# Altium schematic symbol library BoxHeader.SchLib: 163 symbols (part 1 of 2)
Pins are listed as number, name and electrical type; pins without a type are passive.

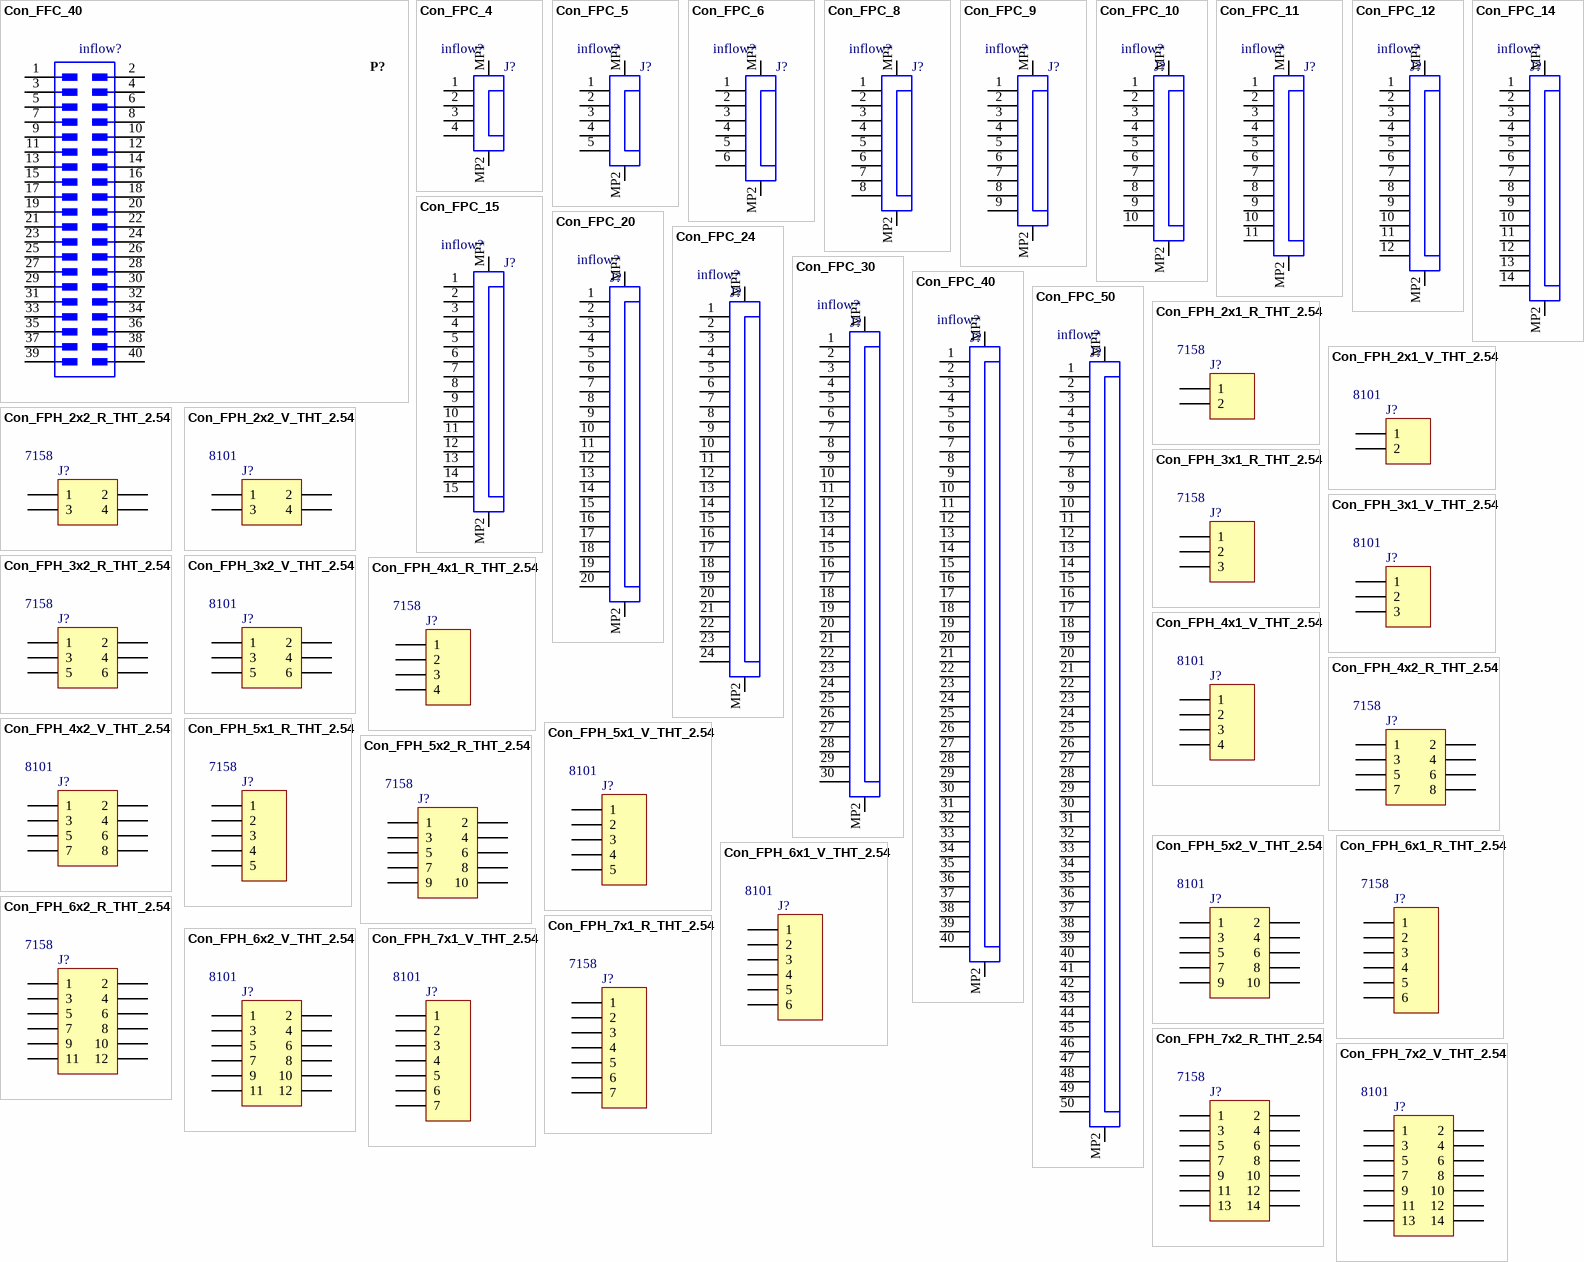
[diagram p0: symbols Con_FFC_40 to Con_FPH_7x2_V_THT_2.54]

## Con_FFC_40
designator P?, comment Inflow: inflow?  (hidden comment: 40'Pin, 0.5'mm)
Header FFC, 40 pin; Rating: Rating?; Validation: NT; Value: 40'Pin, 0.5'mm; Package: Package?; Type: Type?
footprint SMD_CON_FPC_2x20 (FPC-XXS1VN3R)
footprint FFC/SM0.5-2H40A (Connector; FH12 Series; 40 Position; 0.5mm Spaced Top Contact)
pins: 1, 2, 3, 4, 5, 6, 7, 8, 9, 10, 11, 12, 13, 14, 15, 16, 17, 18, 19, 20, 21, 22, 23, 24, 25, 26, 27, 28, 29, 30, 31, 32, 33, 34, 35, 36, 37, 38, 39, 40

## Con_FPC_4
designator J?, comment Inflow: inflow?  (hidden comment: 4'Pin)
SMT ZIF Connectors (FPC), 4 pins; Rating: Rating?; Validation: NT; Value: 4'Pin; Package: Package?; Type: Type?
footprint FPC_4PIN_TC_1mm (ZIF Connectors, Horizontal, Top Contact, pitch 1mm, 4p)
footprint FPC_4PIN_TCLP_1mm (ZIF Connectors, Horizontal, Top Contact Low Profile, pitch 1mm, 4p)
footprint FPC_4PIN_BC_1mm (ZIF Connectors, Horizontal, Bottom Contact, pitch 1mm, 4p)
footprint FPC_4PIN_BCLP_1mm (ZIF Connectors, Horizontal, Bottom Contact Low Profile, pitch 1mm, 4p)
pins: 1, 2, 3, 4, MP1, MP2

## Con_FPC_5
designator J?, comment Inflow: inflow?  (hidden comment: 5'Pin)
SMT ZIF Connectors (FPC), 5 pins; Rating: Rating?; Validation: NT; Value: 5'Pin; Package: Package?; Type: Type?
footprint FPC_5PIN_BC_1mm (ZIF Connectors, Horizontal, Bottom Contact, pitch 1mm, 5p)
pins: 1, 2, 3, 4, 5, MP1, MP2

## Con_FPC_6
designator J?, comment Inflow: inflow?  (hidden comment: 6'Pin)
SMT ZIF Connectors (FPC), 6 pins; Rating: Rating?; Validation: NT; Value: 6'Pin; Package: Package?; Type: Type?
footprint FPC_6PIN_TC_1mm (ZIF Connectors, Horizontal, Top Contact, pitch 1mm, 6p)
footprint FPC_6PIN_TC_0.5mm (ZIF Connectors, Horizontal, Top Contact, pitch 0.5mm, 6p)
footprint FPC_6PIN_TCLP_1mm (ZIF Connectors, Horizontal, Top Contact Low Profile, pitch 1mm, 6p)
footprint FPC_6PIN_TCLP_0.5mm (ZIF Connectors, Horizontal, Top Contact Low Profile, pitch 0.5mm, 6p)
footprint FPC_6PIN_BC_1mm (ZIF Connectors, Horizontal, Bottom Contact, pitch 1mm, 6p)
footprint FPC_6PIN_BC_0.5mm (ZIF Connectors, Horizontal, Bottom Contact, pitch 0.5mm, 6p)
footprint FPC_6PIN_BCLP_1mm (ZIF Connectors, Horizontal, Bottom Contact Low Profile, pitch 1mm, 6p)
footprint FPC_6PIN_BCLP_0.5mm (ZIF Connectors, Horizontal, Bottom Contact Low Profile, pitch 0.5mm, 6p)
pins: 1, 2, 3, 4, 5, 6, MP1, MP2

## Con_FPC_8
designator J?, comment Inflow: inflow?  (hidden comment: 8'Pin)
SMT ZIF Connectors (FPC), 8 pins; Rating: Rating?; Validation: NT; Value: 8'Pin; Package: Package?; Type: Type?
footprint FPC_8PIN_TC_1mm (ZIF Connectors, Horizontal, Top Contact, pitch 1mm, 8p)
footprint FPC_8PIN_TC_0.5mm (ZIF Connectors, Horizontal, Top Contact, pitch 0.5mm, 8p)
footprint FPC_8PIN_TCLP_1mm (ZIF Connectors, Horizontal, Top Contact Low Profile, pitch 1mm, 8p)
footprint FPC_8PIN_TCLP_0.5mm (ZIF Connectors, Horizontal, Top Contact Low Profile, pitch 0.5mm, 8p)
footprint FPC_8PIN_BC_1mm (ZIF Connectors, Horizontal, Bottom Contact, pitch 1mm, 8p)
footprint FPC_8PIN_BC_0.5mm (ZIF Connectors, Horizontal, Bottom Contact, pitch 0.5mm, 8p)
footprint FPC_8PIN_BCLP_1mm (ZIF Connectors, Horizontal, Bottom Contact Low Profile, pitch 1mm, 8p)
footprint FPC_8PIN_BCLP_0.5mm (ZIF Connectors, Horizontal, Bottom Contact Low Profile, pitch 0.5mm, 8p)
pins: 1, 2, 3, 4, 5, 6, 7, 8, MP1, MP2

## Con_FPC_9
designator J?, comment Inflow: inflow?  (hidden comment: 9'Pin)
SMT ZIF Connectors (FPC), 9 pins; Rating: Rating?; Validation: NT; Value: 9'Pin; Package: Package?; Type: Type?
footprint FPC_9PIN_BC_1mm (ZIF Connectors, Horizontal, Bottom Contact, pitch 1mm, 9p)
pins: 1, 2, 3, 4, 5, 6, 7, 8, 9, MP1, MP2

## Con_FPC_10
designator J?, comment Inflow: inflow?  (hidden comment: 10'Pin)
SMT ZIF Connectors (FPC), 10 pins; Rating: Rating?; Validation: Valid; Value: 10'Pin; Package: Package?; Type: Type?
footprint FPC_10PIN_TC_1mm (ZIF Connectors, Horizontal, Top Contact, pitch 1mm, 10p)
footprint FPC_10PIN_TC_0.5mm (ZIF Connectors, Horizontal, Top Contact, pitch 0.5mm, 10p)
footprint FPC_10PIN_TCLP_1mm (ZIF Connectors, Horizontal, Top Contact Low Profile, pitch 1mm, 10p)
footprint FPC_10PIN_TCLP_0.5mm (ZIF Connectors, Horizontal, Top Contact Low Profile, pitch 0.5mm, 10p)
footprint FPC_10PIN_BC_1mm (ZIF Connectors, Horizontal, Bottom Contact, pitch 1mm, 10p)
footprint FPC_10PIN_BC_0.5mm (ZIF Connectors, Horizontal, Bottom Contact, pitch 0.5mm, 10p)
footprint FPC_10PIN_BCLP_1mm (ZIF Connectors, Horizontal, Bottom Contact Low Profile, pitch 1mm, 10p)
footprint FPC_10PIN_BCLP_0.5mm (ZIF Connectors, Horizontal, Bottom Contact Low Profile, pitch 0.5mm, 10p)
pins: 1, 2, 3, 4, 5, 6, 7, 8, 9, 10, MP1, MP2

## Con_FPC_11
designator J?, comment Inflow: inflow?  (hidden comment: 11'Pin)
SMT ZIF Connectors (FPC), 11 pins; Rating: Rating?; Validation: NT; Value: 11'Pin; Package: Package?; Type: Type?
footprint FPC_11PIN_TC_1mm (ZIF Connectors, Horizontal, Top Contact, pitch 1mm, 11p)
pins: 1, 2, 3, 4, 5, 6, 7, 8, 9, 10, 11, MP1, MP2

## Con_FPC_12
designator J?, comment Inflow: inflow?  (hidden comment: 12'Pin)
SMT ZIF Connectors (FPC), 12 pins; Rating: Rating?; Validation: NT; Value: 12'Pin; Package: Package?; Type: Type?
footprint FPC_12PIN_TC_1mm (ZIF Connectors, Horizontal, Top Contact, pitch 1mm, 12p)
footprint FPC_12PIN_TC_0.5mm (ZIF Connectors, Horizontal, Top Contact, pitch 0.5mm, 12p)
footprint FPC_12PIN_TCLP_0.5mm (ZIF Connectors, Horizontal, Top Contact Low Profile, pitch 0.5mm, 12p)
footprint FPC_12PIN_BC_1mm (ZIF Connectors, Horizontal, Bottom Contact, pitch 1mm, 12p)
footprint FPC_12PIN_BC_0.5mm (ZIF Connectors, Horizontal, Bottom Contact, pitch 0.5mm, 12p)
footprint FPC_12PIN_BCLP_0.5mm (ZIF Connectors, Horizontal, Bottom Contact Low Profile, pitch 0.5mm, 12p)
pins: 1, 2, 3, 4, 5, 6, 7, 8, 9, 10, 11, 12, MP1, MP2

## Con_FPC_14
designator J?, comment Inflow: inflow?  (hidden comment: 14'Pin)
SMT ZIF Connectors (FPC), 14 pins; Rating: Rating?; Validation: NT; Value: 14'Pin; Package: Package?; Type: Type?
footprint FPC_14PIN_TC_1mm (ZIF Connectors, Horizontal, Top Contact, pitch 1mm, 14p)
footprint FPC_14PIN_TC_0.5mm (ZIF Connectors, Horizontal, Top Contact, pitch 0.5mm, 14p)
footprint FPC_14PIN_TCLP_1mm (ZIF Connectors, Horizontal, Top Contact Low Profile, pitch 1mm, 14p)
footprint FPC_14PIN_TCLP_0.5mm (ZIF Connectors, Horizontal, Top Contact Low Profile, pitch 0.5mm, 14p)
footprint FPC_14PIN_BC_1mm (ZIF Connectors, Horizontal, Bottom Contact, pitch 1mm, 14p)
footprint FPC_14PIN_BC_0.5mm (ZIF Connectors, Horizontal, Bottom Contact, pitch 0.5mm, 14p)
footprint FPC_14PIN_BCLP_1mm (ZIF Connectors, Horizontal, Bottom Contact Low Profile, pitch 1mm, 14p)
footprint FPC_14PIN_BCLP_0.5mm (ZIF Connectors, Horizontal, Bottom Contact Low Profile, pitch 0.5mm, 14p)
pins: 1, 2, 3, 4, 5, 6, 7, 8, 9, 10, 11, 12, 13, 14, MP1, MP2

## Con_FPC_15
designator J?, comment Inflow: inflow?  (hidden comment: 15'Pin)
SMT ZIF Connectors (FPC), 15 pins; Rating: Rating?; Validation: NT; Value: 15'Pin; Package: Package?; Type: Type?
footprint FPC_15PIN_TC_1mm (ZIF Connectors, Horizontal, Top Contact, pitch 1mm, 15p)
footprint FPC_15PIN_TCLP_1mm (ZIF Connectors, Horizontal, Top Contact Low Profile, pitch 1mm, 15p)
footprint FPC_15PIN_BCLP_1mm (ZIF Connectors, Horizontal, Bottom Contact Low Profile, pitch 1mm, 15p)
pins: 1, 2, 3, 4, 5, 6, 7, 8, 9, 10, 11, 12, 13, 14, 15, MP1, MP2

## Con_FPC_20
designator J?, comment Inflow: inflow?  (hidden comment: 20'Pin)
SMT ZIF Connectors (FPC), 20 pins; Rating: Rating?; Validation: NT; Value: 20'Pin; Package: Package?; Type: Type?
footprint FPC_20PIN_TC_0.5mm (ZIF Connectors, Horizontal, Top Contact, pitch 0.5mm, 20p)
footprint FPC_20PIN_TCLP_0.5mm (ZIF Connectors, Horizontal, Top Contact Low Profile, pitch 0.5mm, 20p)
footprint FPC_20PIN_BC_0.5mm (ZIF Connectors, Horizontal, Bottom Contact, pitch 0.5mm, 20p)
footprint FPC_20PIN_BCLP_0.5mm (ZIF Connectors, Horizontal, Bottom Contact Low Profile, pitch 0.5mm, 20p)
pins: 1, 2, 3, 4, 5, 6, 7, 8, 9, 10, 11, 12, 13, 14, 15, 16, 17, 18, 19, 20, MP1, MP2

## Con_FPC_24
designator J?, comment Inflow: inflow?  (hidden comment: 24'Pin)
SMT ZIF Connectors (FPC), 24 pins; Rating: Rating?; Validation: NT; Value: 24'Pin; Package: Package?; Type: Type?
footprint FPC_24PIN_TC_1mm (ZIF Connectors, Horizontal, Top Contact, pitch 1mm, 24p)
footprint FPC_24PIN_TC_0.5mm (ZIF Connectors, Horizontal, Top Contact, pitch 0.5mm, 24p)
footprint FPC_24PIN_TCLP_0.5mm (ZIF Connectors, Horizontal, Top Contact Low Profile, pitch 0.5mm, 24p)
footprint FPC_24PIN_BC_1mm (ZIF Connectors, Horizontal, Bottom Contact, pitch 1mm, 24p)
footprint FPC_24PIN_BC_0.5mm (ZIF Connectors, Horizontal, Bottom Contact, pitch 0.5mm, 24p)
footprint FPC_24PIN_BCLP_0.5mm (ZIF Connectors, Horizontal, Bottom Contact Low Profile, pitch 0.5mm, 24p)
pins: 1, 2, 3, 4, 5, 6, 7, 8, 9, 10, 11, 12, 13, 14, 15, 16, 17, 18, 19, 20, 21, 22, 23, 24, MP1, MP2

## Con_FPC_30
designator J?, comment Inflow: inflow?  (hidden comment: 30'Pin)
SMT ZIF Connectors (FPC), 30 pins; Rating: Rating?; Validation: NT; Value: 30'Pin; Package: Package?; Type: Type?
footprint FPC_30PIN_TC_1mm (ZIF Connectors, Horizontal, Top Contact, pitch 1mm, 30p)
footprint FPC_30PIN_TC_0.5mm (ZIF Connectors, Horizontal, Top Contact, pitch 0.5mm, 30p)
footprint FPC_30PIN_TCLP_0.5mm (ZIF Connectors, Horizontal, Top Contact Low Profile, pitch 0.5mm, 30p)
footprint FPC_30PIN_BC_1mm (ZIF Connectors, Horizontal, Bottom Contact, pitch 1mm, 30p)
footprint FPC_30PIN_BC_0.5mm (ZIF Connectors, Horizontal, Bottom Contact, pitch 0.5mm, 30p)
footprint FPC_30PIN_BCLP_0.5mm (ZIF Connectors, Horizontal, Bottom Contact Low Profile, pitch 0.5mm, 30p)
pins: 1, 2, 3, 4, 5, 6, 7, 8, 9, 10, 11, 12, 13, 14, 15, 16, 17, 18, 19, 20, 21, 22, 23, 24, 25, 26, 27, 28, 29, 30, MP1, MP2

## Con_FPC_40
designator J?, comment Inflow: inflow?  (hidden comment: 40'Pin)
SMT ZIF Connectors (FPC), 40 pins; Rating: Rating?; Validation: NT; Value: 40'Pin; Package: Package?; Type: Type?
footprint FPC_40PIN_TC_0.5mm (ZIF Connectors, Horizontal, Top Contact, pitch 0.5mm, 40p)
footprint FPC_40PIN_TCLP_0.5mm (ZIF Connectors, Horizontal, Top Contact Low Profile, pitch 0.5mm, 40p)
footprint FPC_40PIN_BC_0.5mm (ZIF Connectors, Horizontal, Bottom Contact, pitch 0.5mm, 40p)
footprint FPC_40PIN_BCLP_0.5mm (ZIF Connectors, Horizontal, Bottom Contact Low Profile, pitch 0.5mm, 40p)
pins: 1, 2, 3, 4, 5, 6, 7, 8, 9, 10, 11, 12, 13, 14, 15, 16, 17, 18, 19, 20, 21, 22, 23, 24, 25, 26, 27, 28, 29, 30, 31, 32, 33, 34, 35, 36, 37, 38, 39, 40, MP1, MP2

## Con_FPC_50
designator J?, comment Inflow: inflow?  (hidden comment: 50'Pin)
SMT ZIF Connectors (FPC), 50 pins; Rating: Rating?; Validation: NT; Value: 50'Pin; Package: Package?; Type: Type?
footprint FPC_50PIN_TC_0.5mm (ZIF Connectors, Horizontal, Top Contact, pitch 0.5mm, 50p)
footprint FPC_50PIN_BC_0.5mm (ZIF Connectors, Horizontal, Bottom Contact, pitch 0.5mm, 50p)
pins: 1, 2, 3, 4, 5, 6, 7, 8, 9, 10, 11, 12, 13, 14, 15, 16, 17, 18, 19, 20, 21, 22, 23, 24, 25, 26, 27, 28, 29, 30, 31, 32, 33, 34, 35, 36, 37, 38, 39, 40, 41, 42, 43, 44, 45, 46, 47, 48, 49, 50, MP1, MP2

## Con_FPH_2x1_R_THT_2.54
designator J?, comment Inflow: 7158  (hidden comment: 2)
Header, single row, 2 pin; Rating: Rating?; Validation: NT; Value: 2; Package: Package?; Type: Type?
footprint HDR_THT_2F_2.54mm_RA (Socket Header, Pitch 2.54 mm, THT, Angled, single row, 2p)
pins: 1, 2

## Con_FPH_2x1_V_THT_2.54
designator J?, comment Inflow: 8101  (hidden comment: 2)
Header, single row, 2 pin; Rating: Rating?; Validation: NT; Value: 2; Package: Package?; Type: Type?
footprint HDR_THT_2F_2mm (Socket Header, Pitch 2.00 mm, THT, Vertical, single row, 2p)
footprint HDR_THT_2F_2.54mm (Socket Header, Pitch 2.54 mm, THT, Vertical, single row, 2p)
pins: 1, 2

## Con_FPH_2x2_R_THT_2.54
designator J?, comment Inflow: 7158  (hidden comment: 2x2)
Header, dual row, 4 pin; Rating: Rating?; Validation: NT; Value: 2x2; Package: Package?; Type: Type?
footprint HDR_SMD_2x2F_2mm_RA (Socket Header, Pitch 2.00 mm, SMT, Angled, dual row, 4p)
footprint HDR_THT_2x2F_2.54mm_RA (Socket Header, Pitch 2.54 mm, THT, Angled, dual row, 4p)
pins: 1, 2, 3, 4

## Con_FPH_2x2_V_THT_2.54
designator J?, comment Inflow: 8101  (hidden comment: 2x2)
Header, dual row, 4 pin; Rating: Rating?; Validation: NT; Value: 2x2; Package: Package?; Type: Type?
footprint HDR_SMD_2x2F_1.27mm (Socket Header, Pitch 1.27 mm, SMT, Vertical, dual row, 4p)
footprint HDR_THT_2x2F_1.27mm (Socket Header, Pitch 1.27 mm, THT, Vertical, dual row, 4p)
footprint HDR_SMD_2x2F_2mm (Socket Header, Pitch 2.00 mm, SMT, Vertical, dual row, 4p)
footprint HDR_SMD_2x2F_2.54mm (Socket Header, Pitch 2.54 mm, SMT, Vertical, dual row, 4p)
footprint HDR_THT_2x2F_2mm (Socket Header, Pitch 2.00 mm, THT, Vertical, dual row, 4p)
footprint HDR_THT_2x2F_2.54mm (Socket Header, Pitch 2.54 mm, THT, Vertical, dual row, 4p)
pins: 1, 2, 3, 4

## Con_FPH_3x1_R_THT_2.54
designator J?, comment Inflow: 7158  (hidden comment: 3)
Header, single row, 3 pin; Rating: Rating?; Validation: NT; Value: 3; Package: Package?; Type: Type?
footprint HDR_THT_3F_2.54mm_RA (Socket Header, Pitch 2.54 mm, THT, Angled, single row, 3p)
pins: 1, 2, 3

## Con_FPH_3x1_V_THT_2.54
designator J?, comment Inflow: 8101  (hidden comment: 3)
Header, single row, 3 pin; Rating: Rating?; Validation: NT; Value: 3; Package: Package?; Type: Type?
footprint HDR_THT_3F_2.54mm (Socket Header, Pitch 2.54 mm, THT, Vertical, single row, 3p)
pins: 1, 2, 3

## Con_FPH_3x2_R_THT_2.54
designator J?, comment Inflow: 7158  (hidden comment: 3x2)
Header, dual row, 6 pin; Rating: Rating?; Validation: NT; Value: 3x2; Package: Package?; Type: Type?
footprint HDR_SMD_3x2F_2mm_RA (Socket Header, Pitch 2.00 mm, SMT, Angled, dual row, 6p)
footprint HDR_SMD_3x2F_2.54mm_RA (Socket Header, Pitch 2.54 mm, SMT, Angled, dual row, 6p)
footprint HDR_THT_3x2F_2.54mm_RA (Socket Header, Pitch 2.54 mm, THT, Angled, dual row, 6p)
pins: 1, 2, 3, 4, 5, 6

## Con_FPH_3x2_V_THT_2.54
designator J?, comment Inflow: 8101  (hidden comment: 3x2)
Header, dual row, 6 pin; Rating: Rating?; Validation: NT; Value: 3x2; Package: Package?; Type: Type?
footprint HDR_THT_3X2F_2.54mm (Pin Header, pitch 2.54 mm, THT, Vertical, dual row, 6p)
footprint HDR_SMD_3x2F_2mm (Socket Header, Pitch 2.00 mm, SMT, Vertical, dual row, 6p)
footprint HDR_SMD_3x2F_2.54mm (Socket Header, Pitch 2.54 mm, SMT, Vertical, dual row, 6p)
footprint HDR_THT_3x2F_2mm (Socket Header, Pitch 2.00 mm, THT, Vertical, dual row, 6p)
pins: 1, 2, 3, 4, 5, 6

## Con_FPH_4x1_R_THT_2.54
designator J?, comment Inflow: 7158  (hidden comment: 4)
Header, single row, 4 pin; Rating: Rating?; Validation: NT; Value: 4; Package: Package?; Type: Type?
footprint HDR_THT_4F_2.54mm_RA (Socket Header, Pitch 2.54 mm, THT, Angled, single row, 4p)
pins: 1, 2, 3, 4

## Con_FPH_4x1_V_THT_2.54
designator J?, comment Inflow: 8101  (hidden comment: 4)
Header, single row, 4 pin; Rating: Rating?; Validation: NT; Value: 4; Package: Package?; Type: Type?
footprint HDR_THT_4F_2.54mm (Pin Header, pitch 2.54 mm, THT, Vertical, single row, 4p)
footprint HDR_SMD_4F_2.54mm (Socket Header, Pitch 2.54 mm, SMT, Vertical, single row, 4p)
footprint HDR_SMD_4F_2.54mm_ (Socket Header, Pitch 2.54 mm, SMT, Vertical, single row, 4p)
footprint HDR_THT_4F_2mm (Socket Header, Pitch 2.00 mm, THT, Vertical, single row, 4p)
footprint HDR_THT_4F_2.54mm_military (Pin Header, pitch 2.54 mm, THT, Vertical, single row, 4p)
pins: 1, 2, 3, 4

## Con_FPH_4x2_R_THT_2.54
designator J?, comment Inflow: 7158  (hidden comment: 4x2)
Header, dual row, 8 pin; Rating: Rating?; Validation: NT; Value: 4x2; Package: Package?; Type: Type?
footprint HDR_SMD_4x2F_2mm_RA (Socket Header, Pitch 2.00 mm, SMT, Angled, dual row, 8p)
footprint HDR_SMD_4x2F_2.54mm_RA (Socket Header, Pitch 2.54 mm, SMT, Angled, dual row, 8p)
footprint HDR_THT_4x2F_2.54mm_RA (Socket Header, Pitch 2.54 mm, THT, Angled, dual row, 8p)
pins: 1, 2, 3, 4, 5, 6, 7, 8

## Con_FPH_4x2_V_THT_2.54
designator J?, comment Inflow: 8101  (hidden comment: 4x2)
Header, dual row, 8 pin; Rating: Rating?; Validation: NT; Value: 4x2; Package: Package?; Type: Type?
footprint HDR_THT_4X2F_2.54mm (Pin Header, pitch 2.54 mm, THT, Vertical, dual row, 8p)
footprint HDR_SMD_4x2F_1.27mm (Socket Header, Pitch 1.27 mm, SMT, Vertical, dual row, 8p)
footprint HDR_THT_4x2F_1.27mm (Socket Header, Pitch 1.27 mm, THT, Vertical, dual row, 8p)
footprint HDR_SMD_4x2F_2mm (Socket Header, Pitch 2.00 mm, SMT, Vertical, dual row, 8p)
footprint HDR_SMD_4x2F_2.54mm (Socket Header, Pitch 2.54 mm, SMT, Vertical, dual row, 8p)
footprint HDR_THT_4x2F_2mm (Socket Header, Pitch 2.00 mm, THT, Vertical, dual row, 8p)
pins: 1, 2, 3, 4, 5, 6, 7, 8

## Con_FPH_5x1_R_THT_2.54
designator J?, comment Inflow: 7158  (hidden comment: 5)
Header, single row, 5 pin; Rating: Rating?; Validation: NT; Value: 5; Package: Package?; Type: Type?
footprint HDR_THT_5F_2.54mm_RA (Socket Header, Pitch 2.54 mm, THT, Angled, single row, 5p)
pins: 1, 2, 3, 4, 5

## Con_FPH_5x1_V_THT_2.54
designator J?, comment Inflow: 8101  (hidden comment: 5)
Header, single row, 5 pin; Rating: Rating?; Validation: NT; Value: 5; Package: Package?; Type: Type?
footprint HDR_SMD_5F_2.54mm (Socket Header, Pitch 2.54 mm, SMT, Vertical, single row, 5p)
footprint HDR_SMD_5F_2.54mm_ (Socket Header, Pitch 2.54 mm, SMT, Vertical, single row, 5p)
footprint HDR_THT_5F_2.54mm (Socket Header, Pitch 2.54 mm, THT, Vertical, single row, 5p)
pins: 1, 2, 3, 4, 5

## Con_FPH_5x2_R_THT_2.54
designator J?, comment Inflow: 7158  (hidden comment: 5x2)
Header, dual row, 10 pin; Rating: Rating?; Validation: NT; Value: 5x2; Package: Package?; Type: Type?
footprint HDR_SMD_5x2F_2mm_RA (Socket Header, Pitch 2.00 mm, SMT, Angled, dual row, 10p)
footprint HDR_SMD_5x2F_2.54mm_RA (Socket Header, Pitch 2.54 mm, SMT, Angled, dual row, 10p)
footprint HDR_THT_5x2F_2.54mm_RA (Socket Header, Pitch 2.54 mm, THT, Angled, dual row, 10p)
pins: 1, 2, 3, 4, 5, 6, 7, 8, 9, 10

## Con_FPH_5x2_V_THT_2.54
designator J?, comment Inflow: 8101  (hidden comment: 5x2)
Header, dual row, 10 pin; Rating: Rating?; Validation: NT; Value: 5x2; Package: Package?; Type: Type?
footprint HDR_SMD_5x2F_1.27mm (Socket Header, Pitch 1.27 mm, SMT, Vertical, dual row, 10p)
footprint HDR_THT_5x2F_1.27mm (Socket Header, Pitch 1.27 mm, THT, Vertical, dual row, 10p)
footprint HDR_SMD_5x2F_2mm (Socket Header, Pitch 2.00 mm, SMT, Vertical, dual row, 10p)
footprint HDR_SMD_5x2F_2.54mm (Socket Header, Pitch 2.54 mm, SMT, Vertical, dual row, 10p)
footprint HDR_THT_5x2F_2mm (Socket Header, Pitch 2.00 mm, THT, Vertical, dual row, 10p)
footprint HDR_THT_5x2F_2.54mm (Socket Header, Pitch 2.54 mm, THT, Vertical, dual row, 10p)
pins: 1, 2, 3, 4, 5, 6, 7, 8, 9, 10

## Con_FPH_6x1_R_THT_2.54
designator J?, comment Inflow: 7158  (hidden comment: 6)
Header, single row, 6 pin; Rating: Rating?; Validation: NT; Value: 6; Package: Package?; Type: Type?
footprint HDR_THT_6F_2.54mm_RA (Socket Header, Pitch 2.54 mm, THT, Angled, single row, 6p)
pins: 1, 2, 3, 4, 5, 6

## Con_FPH_6x1_V_THT_2.54
designator J?, comment Inflow: 8101  (hidden comment: 6)
Header, single row, 6 pin; Rating: Rating?; Validation: NT; Value: 6; Package: Package?; Type: Type?
footprint HDR_THT_6F_2.54mm (Pin Header, pitch 2.54 mm, THT, Vertical, single row, 6p)
footprint HDR_SMD_6F_2.54mm (Socket Header, Pitch 2.54 mm, SMT, Vertical, single row, 6p)
footprint HDR_SMD_6F_2.54mm_ (Socket Header, Pitch 2.54 mm, SMT, Vertical, single row, 6p)
footprint HDR_THT_6F_2mm (Socket Header, Pitch 2.00 mm, THT, Vertical, single row, 6p)
footprint HDR_THT_6F_2.54mm_military (Pin Header, pitch 2.54 mm, THT, Vertical, single row, 6p)
pins: 1, 2, 3, 4, 5, 6

## Con_FPH_6x2_R_THT_2.54
designator J?, comment Inflow: 7158  (hidden comment: 6x2)
Header, dual row, 12 pin; Rating: Rating?; Validation: NT; Value: 6x2; Package: Package?; Type: Type?
footprint HDR_SMD_6x2F_2mm_RA (Socket Header, Pitch 2.00 mm, SMT, Angled, dual row, 12p)
footprint HDR_SMD_6x2F_2.54mm_RA (Socket Header, Pitch 2.54 mm, SMT, Angled, dual row, 12p)
footprint HDR_THT_6x2F_2.54mm_RA (Socket Header, Pitch 2.54 mm, THT, Angled, dual row, 12p)
pins: 1, 2, 3, 4, 5, 6, 7, 8, 9, 10, 11, 12

## Con_FPH_6x2_V_THT_2.54
designator J?, comment Inflow: 8101  (hidden comment: 6x2)
Header, dual row, 12 pin; Rating: Rating?; Validation: NT; Value: 6x2; Package: Package?; Type: Type?
footprint HDR_SMD_6x2F_2.54mm (Socket Header, Pitch 2.54 mm, SMT, Vertical, dual row, 12p)
footprint HDR_THT_6x2F_2.54mm (Socket Header, Pitch 2.54 mm, THT, Vertical, dual row, 12p)
pins: 1, 2, 3, 4, 5, 6, 7, 8, 9, 10, 11, 12

## Con_FPH_7x1_R_THT_2.54
designator J?, comment Inflow: 7158  (hidden comment: 7)
Header, single row, 7 pin; Rating: Rating?; Validation: NT; Value: 7; Package: Package?; Type: Type?
footprint HDR_THT_7F_2.54mm_RA (Socket Header, Pitch 2.54 mm, THT, Angled, single row, 7p)
pins: 1, 2, 3, 4, 5, 6, 7

## Con_FPH_7x1_V_THT_2.54
designator J?, comment Inflow: 8101  (hidden comment: 7)
Header, single row, 7 pin; Rating: Rating?; Validation: NT; Value: 7; Package: Package?; Type: Type?
footprint HDR_THT_7F_2.54mm (Socket Header, Pitch 2.54 mm, THT, Vertical, single row, 7p)
pins: 1, 2, 3, 4, 5, 6, 7

## Con_FPH_7x2_R_THT_2.54
designator J?, comment Inflow: 7158  (hidden comment: 7x2)
Header, dual row, 14 pin; Rating: Rating?; Validation: NT; Value: 7x2; Package: Package?; Type: Type?
footprint HDR_SMD_7x2F_2.54mm_RA (Socket Header, Pitch 2.54 mm, SMT, Angled, dual row, 14p)
footprint HDR_SMD_7X2F_2mm_RA (Socket Header, Pitch 2.00 mm, SMT, Angled, dual row, 14p)
footprint HDR_THT_7x2F_2.54mm_RA (Socket Header, Pitch 2.54 mm, THT, Angled, dual row, 14p)
pins: 1, 2, 3, 4, 5, 6, 7, 8, 9, 10, 11, 12, 13, 14

## Con_FPH_7x2_V_THT_2.54
designator J?, comment Inflow: 8101  (hidden comment: 7x2)
Header, dual row, 14 pin; Rating: Rating?; Validation: NT; Value: 7x2; Package: Package?; Type: Type?
footprint HDR_THT_7x2F_2.54mm (Pin Header, pitch 2.54mm, THT, Vertical, dual row, 14p)
footprint HDR_SMD_7X2F_1.27mm (Socket Header, Pitch 1.27 mm, SMT, Vertical, dual row, 14p)
footprint HDR_THT_7X2F_1.27mm (Socket Header, Pitch 1.27 mm, THT, Vertical, dual row, 14p)
footprint HDR_SMD_7x2F_2mm (Socket Header, Pitch 2.00 mm, SMT, Vertical, dual row, 14p)
footprint HDR_THT_7X2F_2mm (Socket Header, Pitch 2.00 mm, THT, Vertical, dual row, 14p)
pins: 1, 2, 3, 4, 5, 6, 7, 8, 9, 10, 11, 12, 13, 14

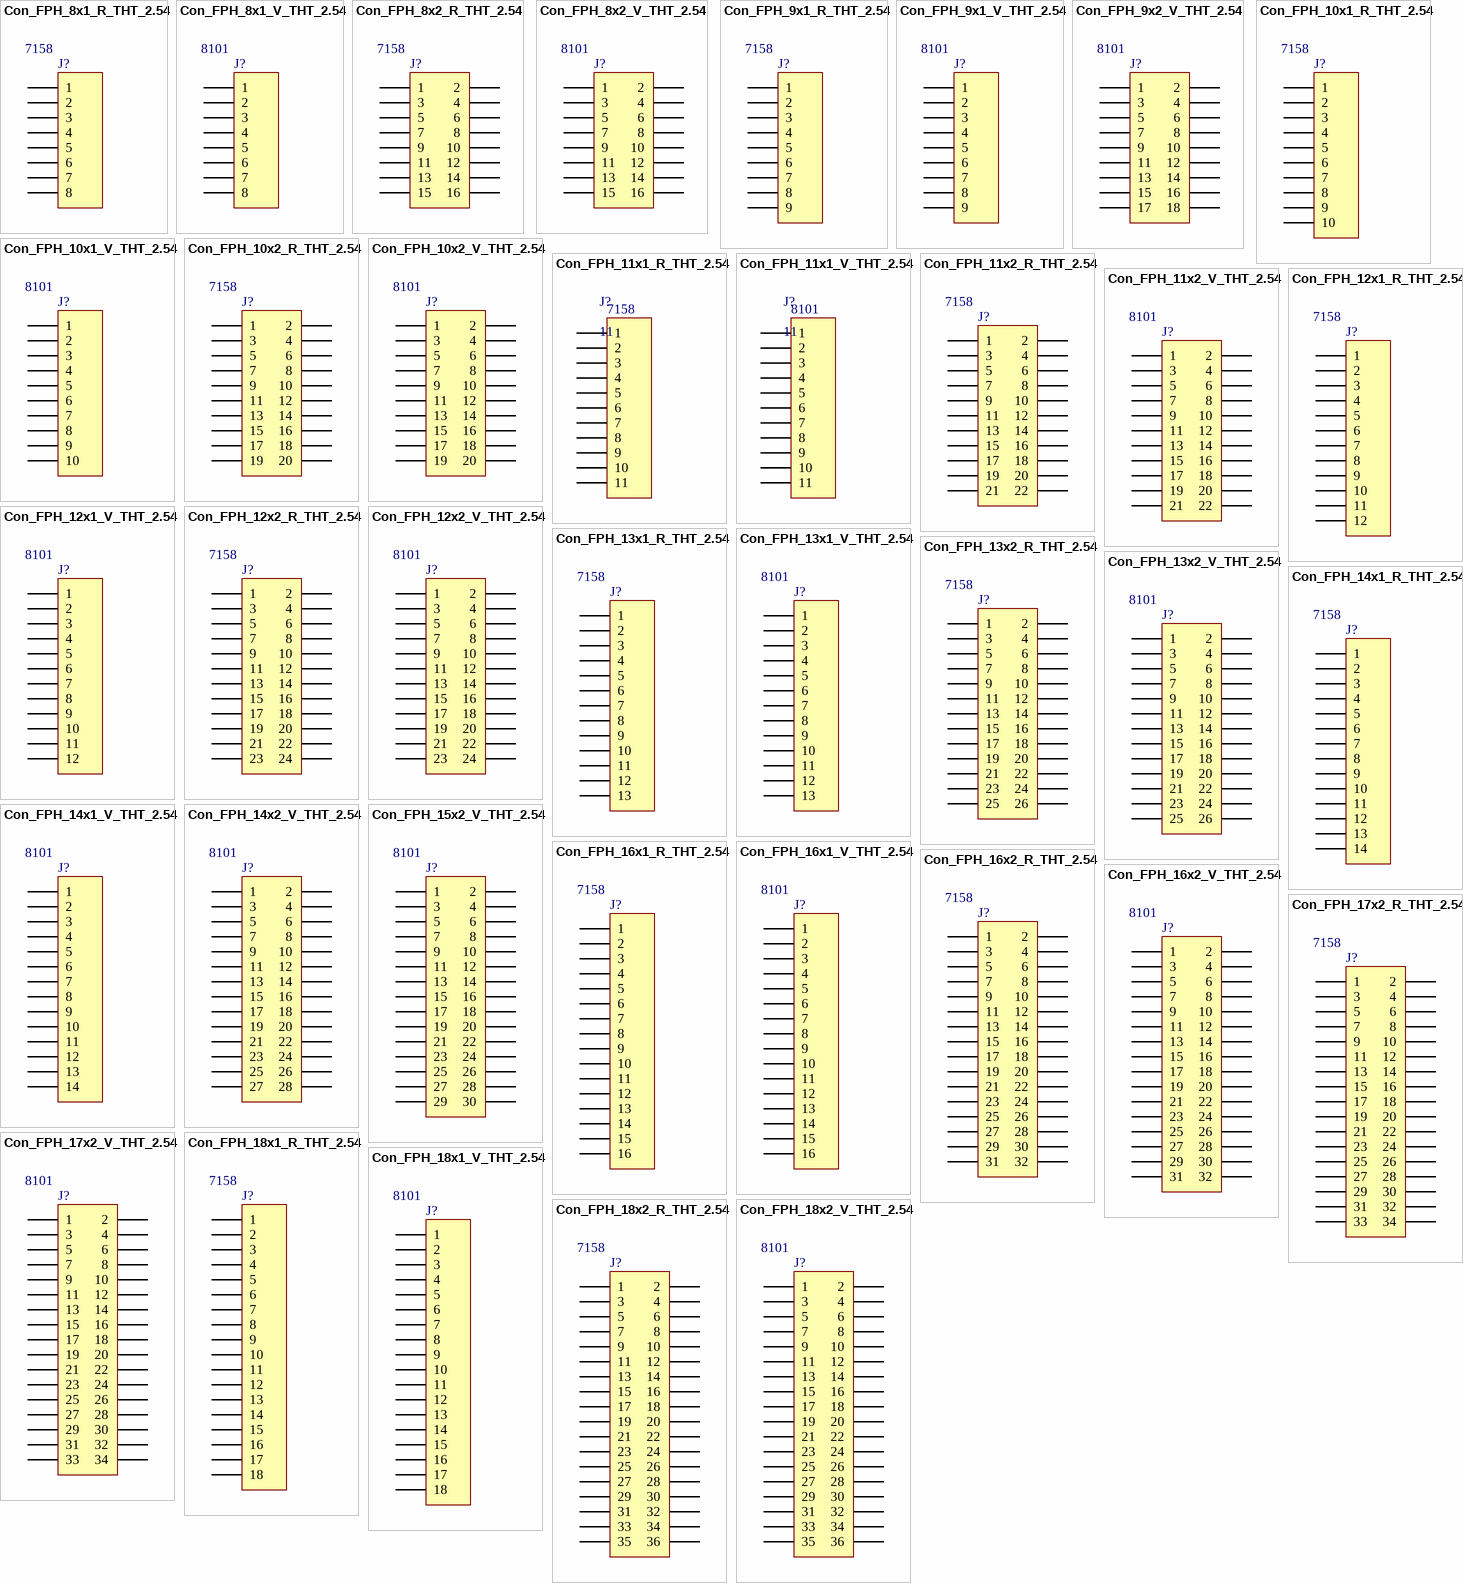
[diagram p1: symbols Con_FPH_8x1_R_THT_2.54 to Con_FPH_18x2_V_THT_2.54]

## Con_FPH_8x1_R_THT_2.54
designator J?, comment Inflow: 7158  (hidden comment: 8)
Header, single row, 8 pin; Rating: Rating?; Validation: NT; Value: 8; Package: Package?; Type: Type?
footprint HDR_THT_8F_2.54mm_RA (Socket Header, Pitch 2.54 mm, THT, Angled, single row, 18p)
pins: 1, 2, 3, 4, 5, 6, 7, 8

## Con_FPH_8x1_V_THT_2.54
designator J?, comment Inflow: 8101  (hidden comment: 8)
Header, single row, 8 pin; Rating: Rating?; Validation: NT; Value: 8; Package: Package?; Type: Type?
footprint HDR_SMD_8F_2.54mm (Socket Header, Pitch 2.54 mm, SMT, Vertical, single row, 8p)
footprint HDR_SMD_8F_2.54mm_ (Socket Header, Pitch 2.54 mm, SMT, Vertical, single row, 8p)
footprint HDR_THT_8F_2mm (Socket Header, Pitch 2.00 mm, THT, Vertical, single row, 8p)
footprint HDR_THT_8F_2.54mm (Socket Header, Pitch 2.54 mm, THT, Vertical, single row, 8p)
pins: 1, 2, 3, 4, 5, 6, 7, 8

## Con_FPH_8x2_R_THT_2.54
designator J?, comment Inflow: 7158  (hidden comment: 8x2)
Header, dual row, 16 pin; Rating: Rating?; Validation: NT; Value: 8x2; Package: Package?; Type: Type?
footprint HDR_SMD_8x2F_2mm_RA (Socket Header, Pitch 2.00 mm, SMT, Angled, dual row, 16p)
footprint HDR_SMD_8x2F_2.54mm_RA (Socket Header, Pitch 2.54 mm, SMT, Angled, dual row, 16p)
footprint HDR_THT_8x2F_2.54mm_RA (Socket Header, Pitch 2.54 mm, THT, Angled, dual row, 16p)
pins: 1, 2, 3, 4, 5, 6, 7, 8, 9, 10, 11, 12, 13, 14, 15, 16

## Con_FPH_8x2_V_THT_2.54
designator J?, comment Inflow: 8101  (hidden comment: 8x2)
Header, dual row, 16 pin; Rating: Rating?; Validation: NT; Value: 8x2; Package: Package?; Type: Type?
footprint HDR_THT_8x2F_2.54mm (Pin Header, pitch 2.54 mm, THT, Vertical, dual row, 16p)
footprint HDR_SMD_8x2F_1.27mm (Socket Header, Pitch 1.27 mm, SMT, Vertical, dual row, 16p)
footprint HDR_THT_8x2F_1.27mm (Socket Header, Pitch 1.27 mm, THT, Vertical, dual row, 16p)
footprint HDR_SMD_8x2F_2mm (Socket Header, Pitch 2.00 mm, SMT, Vertical, dual row, 16p)
footprint HDR_SMD_8x2F_2.54mm (Socket Header, Pitch 2.54 mm, SMT, Vertical, dual row, 16p)
footprint HDR_THT_8x2F_2mm (Socket Header, Pitch 2.00 mm, THT, Vertical, dual row, 16p)
pins: 1, 2, 3, 4, 5, 6, 7, 8, 9, 10, 11, 12, 13, 14, 15, 16

## Con_FPH_9x1_R_THT_2.54
designator J?, comment Inflow: 7158  (hidden comment: 9)
Header, single row, 9 pin; Rating: Rating?; Validation: NT; Value: 9; Package: Package?; Type: Type?
footprint HDR_THT_9F_2.54mm_RA (Socket Header, Pitch 2.54 mm, THT, Angled, single row, 19p)
pins: 1, 2, 3, 4, 5, 6, 7, 8, 9

## Con_FPH_9x1_V_THT_2.54
designator J?, comment Inflow: 8101  (hidden comment: 9)
Header, single row, 9 pin; Rating: Rating?; Validation: NT; Value: 9; Package: Package?; Type: Type?
footprint HDR_THT_9F_2.54mm (Socket Header, Pitch 2.54 mm, THT, Vertical, single row, 9p)
pins: 1, 2, 3, 4, 5, 6, 7, 8, 9

## Con_FPH_9x2_V_THT_2.54
designator J?, comment Inflow: 8101  (hidden comment: 9x2)
Header, dual row, 18 pin; Rating: Rating?; Validation: NT; Value: 9x2; Package: Package?; Type: Type?
footprint HDR_SMD_9x2F_2.54mm (Socket Header, Pitch 2.54 mm, SMT, Vertical, dual row, 18p)
footprint HDR_THT_9x2F_2.54mm (Socket Header, Pitch 2.54 mm, THT, Vertical, dual row, 18p)
pins: 1, 2, 3, 4, 5, 6, 7, 8, 9, 10, 11, 12, 13, 14, 15, 16, 17, 18

## Con_FPH_10x1_R_THT_2.54
designator J?, comment Inflow: 7158  (hidden comment: 10)
Header, single row, 10 pin; Rating: Rating?; Validation: NT; Value: 10; Package: Package?; Type: Type?
footprint HDR_THT_10F_2.54mm_RA (Socket Header, Pitch 2.54 mm, THT, Angled, single row, 10p)
pins: 1, 2, 3, 4, 5, 6, 7, 8, 9, 10

## Con_FPH_10x1_V_THT_2.54
designator J?, comment Inflow: 8101  (hidden comment: 10)
Header, single row, 10 pin; Rating: Rating?; Validation: NT; Value: 10; Package: Package?; Type: Type?
footprint HDR_SMD_10F_2.54mm (Socket Header, Pitch 2.54 mm, SMT, Vertical, single row, 10p)
footprint HDR_SMD_10F_2.54mm_ (Socket Header, Pitch 2.54 mm, SMT, Vertical, single row, 10p)
footprint HDR_THT_10F_2mm (Socket Header, Pitch 2.00 mm, THT, Vertical, single row, 10p)
footprint HDR_THT_10F_2.54mm (Socket Header, Pitch 2.54 mm, THT, Vertical, single row, 10p)
pins: 1, 2, 3, 4, 5, 6, 7, 8, 9, 10

## Con_FPH_10x2_R_THT_2.54
designator J?, comment Inflow: 7158  (hidden comment: 10x2)
Header, dual row, 20 pin; Rating: Rating?; Validation: NT; Value: 10x2; Package: Package?; Type: Type?
footprint HDR_SMD_10x2F_2mm_RA (Socket Header, Pitch 2.00 mm, SMT, Angled, dual row, 20p)
footprint HDR_SMD_10x2F_2.54mm_RA (Socket Header, Pitch 2.54 mm, SMT, Angled, dual row, 20p)
footprint HDR_THT_10x2F_2.54mm_RA (Socket Header, Pitch 2.54 mm, THT, Angled, dual row, 20p)
pins: 1, 2, 3, 4, 5, 6, 7, 8, 9, 10, 11, 12, 13, 14, 15, 16, 17, 18, 19, 20

## Con_FPH_10x2_V_THT_2.54
designator J?, comment Inflow: 8101  (hidden comment: 10x2)
Header, dual row, 20 pin; Rating: Rating?; Validation: NT; Value: 10x2; Package: Package?; Type: Type?
footprint HDR_THT_10X2F_2.54mm (Pin Header, pitch 2.54 mm, THT, Vertical, dual row, 20p)
footprint HDR_SMD_10x2F_1.27mm (Socket Header, Pitch 1.27 mm, SMT, Vertical, dual row, 20p)
footprint HDR_SMD_10x2F_2.54mm (Socket Header, Pitch 2.54 mm, SMT, Vertical, dual row, 20p)
footprint HDR_THT_10x2F_1.27mm (Socket Header, Pitch 1.27 mm, THT, Vertical, dual row, 20p)
footprint HDR_THT_10x2F_2mm (Socket Header, Pitch 2.00 mm, THT, Vertical, dual row, 20p)
footprint HDR_SMD_10x2F_2mm (Socket Header, Pitch 2.00 mm, SMT, Vertical, dual row, 20p)
pins: 1, 2, 3, 4, 5, 6, 7, 8, 9, 10, 11, 12, 13, 14, 15, 16, 17, 18, 19, 20

## Con_FPH_11x1_R_THT_2.54
designator J?, comment 11  Inflow: 7158
Header, single row, 11 pin; Rating: Rating?; Validation: NT; Value: 11; Package: Package?; Type: Type?
footprint HDR_THT_11F_2.54mm_RA (Socket Header, Pitch 2.54 mm, THT, Angled, single row, 11p)
pins: 1, 2, 3, 4, 5, 6, 7, 8, 9, 10, 11

## Con_FPH_11x1_V_THT_2.54
designator J?, comment 11  Inflow: 8101
Header, single row, 11 pin; Rating: Rating?; Validation: NT; Value: 11; Package: Package?; Type: Type?
footprint HDR_THT_11F_2.54mm (Socket Header, Pitch 2.54 mm, THT, Vertical, single row, 11p)
pins: 1, 2, 3, 4, 5, 6, 7, 8, 9, 10, 11

## Con_FPH_11x2_R_THT_2.54
designator J?, comment Inflow: 7158  (hidden comment: 11x2)
Header, dual row, 22 pin; Rating: Rating?; Validation: NT; Value: 11x2; Package: Package?; Type: Type?
footprint HDR_SMD_11x2F_2.54mm_RA (Socket Header, Pitch 2.54 mm, SMT, Angled, dual row, 22p)
footprint HDR_THT_11x2F_2.54mm_RA (Socket Header, Pitch 2.54 mm, THT, Angled, dual row, 22p)
pins: 1, 2, 3, 4, 5, 6, 7, 8, 9, 10, 11, 12, 13, 14, 15, 16, 17, 18, 19, 20, 21, 22

## Con_FPH_11x2_V_THT_2.54
designator J?, comment Inflow: 8101  (hidden comment: 11x2)
Header, dual row, 22 pin; Rating: Rating?; Validation: NT; Value: 11x2; Package: Package?; Type: Type?
footprint HDR_SMD_11x2F_2.54mm (Socket Header, Pitch 2.54 mm, SMT, Vertical, dual row, 22p)
footprint HDR_THT_11x2F_2.54mm (Socket Header, Pitch 2.54 mm, THT, Vertical, dual row, 22p)
pins: 1, 2, 3, 4, 5, 6, 7, 8, 9, 10, 11, 12, 13, 14, 15, 16, 17, 18, 19, 20, 21, 22

## Con_FPH_12x1_R_THT_2.54
designator J?, comment Inflow: 7158  (hidden comment: 12)
Header, single row, 12 pin; Rating: Rating?; Validation: NT; Value: 12; Package: Package?; Type: Type?
footprint HDR_THT_12F_2.54mm_RA (Socket Header, Pitch 2.54 mm, THT, Angled, single row, 12p)
pins: 1, 2, 3, 4, 5, 6, 7, 8, 9, 10, 11, 12

## Con_FPH_12x1_V_THT_2.54
designator J?, comment Inflow: 8101  (hidden comment: 12)
Header, single row, 12 pin; Rating: Rating?; Validation: NT; Value: 12; Package: Package?; Type: Type?
footprint HDR_SMD_12F_2.54mm (Socket Header, Pitch 2.54 mm, SMT, Vertical, single row, 12p)
footprint HDR_SMD_12F_2.54mm_ (Socket Header, Pitch 2.54 mm, SMT, Vertical, single row, 12p)
footprint HDR_THT_12F_2.54mm (Socket Header, Pitch 2.54 mm, THT, Vertical, single row, 12p)
pins: 1, 2, 3, 4, 5, 6, 7, 8, 9, 10, 11, 12

## Con_FPH_12x2_R_THT_2.54
designator J?, comment Inflow: 7158  (hidden comment: 12x2)
Header, dual row, 24 pin; Rating: Rating?; Validation: NT; Value: 12x2; Package: Package?; Type: Type?
footprint HDR_SMD_12x2F_2.54mm_RA (Socket Header, Pitch 2.54 mm, SMT, Angled, dual row, 24p)
footprint HDR_THT_12x2F_2.54mm_RA (Socket Header, Pitch 2.54 mm, THT, Angled, dual row, 24p)
pins: 1, 2, 3, 4, 5, 6, 7, 8, 9, 10, 11, 12, 13, 14, 15, 16, 17, 18, 19, 20, 21, 22, 23, 24

## Con_FPH_12x2_V_THT_2.54
designator J?, comment Inflow: 8101  (hidden comment: 12x2)
Header, dual row, 24 pin; Rating: Rating?; Validation: NT; Value: 12x2; Package: Package?; Type: Type?
footprint HDR_SMD_12x2F_2mm (Socket Header, Pitch 2.00 mm, SMT, Vertical, dual row, 24p)
footprint HDR_SMD_12x2F_2.54mm (Socket Header, Pitch 2.54 mm, SMT, Vertical, dual row, 24p)
footprint HDR_THT_12x2F_2mm (Socket Header, Pitch 2.00 mm, THT, Vertical, dual row, 24p)
footprint HDR_THT_12x2F_2.54mm (Socket Header, Pitch 2.54 mm, THT, Vertical, dual row, 24p)
pins: 1, 2, 3, 4, 5, 6, 7, 8, 9, 10, 11, 12, 13, 14, 15, 16, 17, 18, 19, 20, 21, 22, 23, 24

## Con_FPH_13x1_R_THT_2.54
designator J?, comment Inflow: 7158  (hidden comment: 13)
Header, single row, 13 pin; Rating: Rating?; Validation: NT; Value: 13; Package: Package?; Type: Type?
footprint HDR_THT_13F_2.54mm_RA (Socket Header, Pitch 2.54 mm, THT, Angled, single row, 13p)
pins: 1, 2, 3, 4, 5, 6, 7, 8, 9, 10, 11, 12, 13

## Con_FPH_13x1_V_THT_2.54
designator J?, comment Inflow: 8101  (hidden comment: 13)
Header, single row, 13 pin; Rating: Rating?; Validation: NT; Value: 13; Package: Package?; Type: Type?
footprint HDR_THT_13F_2.54mm (Pin Header, pitch 2.54 mm, THT, Vertical, single row, 13p)
pins: 1, 2, 3, 4, 5, 6, 7, 8, 9, 10, 11, 12, 13

## Con_FPH_13x2_R_THT_2.54
designator J?, comment Inflow: 7158  (hidden comment: 13x2)
Header, dual row, 26 pin; Rating: Rating?; Validation: NT; Value: 13x2; Package: Package?; Type: Type?
footprint HDR_SMD_13x2F_2.54mm_RA (Socket Header, Pitch 2.54 mm, SMT, Angled, dual row, 26p)
footprint HDR_THT_13x2F_2.54mm_RA (Socket Header, Pitch 2.54 mm, THT, Angled, dual row, 26p)
pins: 1, 2, 3, 4, 5, 6, 7, 8, 9, 10, 11, 12, 13, 14, 15, 16, 17, 18, 19, 20, 21, 22, 23, 24, 25, 26

## Con_FPH_13x2_V_THT_2.54
designator J?, comment Inflow: 8101  (hidden comment: 13x2)
Header, dual row, 26 pin; Rating: Rating?; Validation: NT; Value: 13x2; Package: Package?; Type: Type?
footprint HDR_THT_13X2F_2.54mm (Pin Header, pitch 2.54 mm, THT, Vertical, dual row, 26p)
footprint HDR_SMD_13x2F_2.54mm (Socket Header, Pitch 2.54 mm, SMT, Vertical, dual row, 26p)
pins: 1, 2, 3, 4, 5, 6, 7, 8, 9, 10, 11, 12, 13, 14, 15, 16, 17, 18, 19, 20, 21, 22, 23, 24, 25, 26

## Con_FPH_14x1_R_THT_2.54
designator J?, comment Inflow: 7158  (hidden comment: 14)
Header, single row, 14 pin; Rating: Rating?; Validation: NT; Value: 14; Package: Package?; Type: Type?
footprint HDR_THT_14F_2.54mm_RA (Socket Header, Pitch 2.54 mm, THT, Angled, single row, 14p)
pins: 1, 2, 3, 4, 5, 6, 7, 8, 9, 10, 11, 12, 13, 14

## Con_FPH_14x1_V_THT_2.54
designator J?, comment Inflow: 8101  (hidden comment: 14)
Header, single row, 14 pin; Rating: Rating?; Validation: NT; Value: 14; Package: Package?; Type: Type?
footprint HDR_SMD_14F_2.54mm (Socket Header, Pitch 2.54 mm, SMT, Vertical, single row, 14p)
footprint HDR_THT_14F_2.54mm (Socket Header, Pitch 2.54 mm, THT, Vertical, single row, 14p)
pins: 1, 2, 3, 4, 5, 6, 7, 8, 9, 10, 11, 12, 13, 14

## Con_FPH_14x2_V_THT_2.54
designator J?, comment Inflow: 8101  (hidden comment: 14x2)
Header, dual row, 28 pin; Rating: Rating?; Validation: NT; Value: 14x2; Package: Package?; Type: Type?
footprint HDR_SMD_14x2F_1.27mm (Socket Header, Pitch 1.27 mm, SMT, Vertical, dual row, 28p)
footprint HDR_THT_14x2F_1.27mm (Socket Header, Pitch 1.27 mm, THT, Vertical, dual row, 28p)
footprint HDR_THT_14x2F_2mm (Socket Header, Pitch 2.00 mm, THT, Vertical, dual row, 28p)
footprint HDR_THT_14x2F_2.54mm (Socket Header, Pitch 2.54 mm, THT, Vertical, dual row, 28p)
footprint HDR_THT_14x2F_2.54mm (Socket Header, Pitch 2.54 mm, THT, Vertical, dual row, 28p)
pins: 1, 2, 3, 4, 5, 6, 7, 8, 9, 10, 11, 12, 13, 14, 15, 16, 17, 18, 19, 20, 21, 22, 23, 24, 25, 26, 27, 28

## Con_FPH_15x2_V_THT_2.54
designator J?, comment Inflow: 8101  (hidden comment: 15x2)
Header, dual row, 30 pin; Rating: Rating?; Validation: NT; Value: 15x2; Package: Package?; Type: Type?
footprint HDR_THT_15x2F_2.54mm (Socket Header, Pitch 2.54 mm, THT, Vertical, dual row, 30p)
pins: 1, 2, 3, 4, 5, 6, 7, 8, 9, 10, 11, 12, 13, 14, 15, 16, 17, 18, 19, 20, 21, 22, 23, 24, 25, 26, 27, 28, 29, 30

## Con_FPH_16x1_R_THT_2.54
designator J?, comment Inflow: 7158  (hidden comment: 16)
Header, single row, 16 pin; Rating: Rating?; Validation: NT; Value: 16; Package: Package?; Type: Type?
footprint HDR_THT_16F_2.54mm_RA (Socket Header, Pitch 2.54 mm, THT, Angled, single row, 16p)
pins: 1, 2, 3, 4, 5, 6, 7, 8, 9, 10, 11, 12, 13, 14, 15, 16

## Con_FPH_16x1_V_THT_2.54
designator J?, comment Inflow: 8101  (hidden comment: 16)
Header, single row, 16 pin; Rating: Rating?; Validation: NT; Value: 16; Package: Package?; Type: Type?
footprint HDR_SMD_16F_2.54mm (Socket Header, Pitch 2.54 mm, SMT, Vertical, single row, 16p)
footprint HDR_SMD_16F_2.54mm_ (Socket Header, Pitch 2.54 mm, SMT, Vertical, single row, 16p)
footprint HDR_THT_16F_2.54mm (Socket Header, Pitch 2.54 mm, THT, Vertical, single row, 16p)
pins: 1, 2, 3, 4, 5, 6, 7, 8, 9, 10, 11, 12, 13, 14, 15, 16

## Con_FPH_16x2_R_THT_2.54
designator J?, comment Inflow: 7158  (hidden comment: 16x2)
Header, dual row, 32 pin; Rating: Rating?; Validation: NT; Value: 16x2; Package: Package?; Type: Type?
footprint HDR_THT_16x2F_2.54mm_RA (Socket Header, Pitch 2.54 mm, THT, Angled, dual row, 32p)
pins: 1, 2, 3, 4, 5, 6, 7, 8, 9, 10, 11, 12, 13, 14, 15, 16, 17, 18, 19, 20, 21, 22, 23, 24, 25, 26, 27, 28, 29, 30, 31, 32

## Con_FPH_16x2_V_THT_2.54
designator J?, comment Inflow: 8101  (hidden comment: 16x2)
Header, dual row, 32 pin; Rating: Rating?; Validation: NT; Value: 16x2; Package: Package?; Type: Type?
footprint HDR_THT_16X2F_2.54mm (Pin Header, pitch 2.54 mm, THT, Vertical, dual row, 32p)
footprint HDR_SMD_16x2F_2mm (Socket Header, Pitch 2.00 mm, SMT, Vertical, dual row, 32p)
footprint HDR_SMD_16x2F_2.54mm (Socket Header, Pitch 2.54 mm, SMT, Vertical, dual row, 32p)
footprint HDR_THT_16X2F_2mm (Socket Header, Pitch 2.00 mm, THT, Vertical, dual row, 32p)
pins: 1, 2, 3, 4, 5, 6, 7, 8, 9, 10, 11, 12, 13, 14, 15, 16, 17, 18, 19, 20, 21, 22, 23, 24, 25, 26, 27, 28, 29, 30, 31, 32

## Con_FPH_17x2_R_THT_2.54
designator J?, comment Inflow: 7158  (hidden comment: 17)
Header, dual row, 34 pin; Rating: Rating?; Validation: NT; Value: 17; Package: Package?; Type: Type?
footprint HDR_THT_17x2F_2.54mm_RA (Socket Header, Pitch 2.54 mm, THT, Angled, dual row, 34p)
pins: 1, 2, 3, 4, 5, 6, 7, 8, 9, 10, 11, 12, 13, 14, 15, 16, 17, 18, 19, 20, 21, 22, 23, 24, 25, 26, 27, 28, 29, 30, 31, 32, 33, 34

## Con_FPH_17x2_V_THT_2.54
designator J?, comment Inflow: 8101  (hidden comment: 17)
Header, dual row, 34 pin; Rating: Rating?; Validation: NT; Value: 17; Package: Package?; Type: Type?
footprint HDR_SMD_17x2F_2.54mm (Socket Header, Pitch 2.54 mm, SMT, Vertical, dual row, 34p)
footprint HDR_SMD_17x2F_2.54mm_tiny (Socket Header, Pitch 2.54 mm, SMT, Vertical, dual row, 34p)
footprint HDR_THT_17x2F_2.54mm (Socket Header, Pitch 2.54 mm, THT, Vertical, dual row, 34p)
pins: 1, 2, 3, 4, 5, 6, 7, 8, 9, 10, 11, 12, 13, 14, 15, 16, 17, 18, 19, 20, 21, 22, 23, 24, 25, 26, 27, 28, 29, 30, 31, 32, 33, 34

## Con_FPH_18x1_R_THT_2.54
designator J?, comment Inflow: 7158  (hidden comment: 18)
Header, single row, 18 pin; Rating: Rating?; Validation: NT; Value: 18; Package: Package?; Type: Type?
footprint HDR_THT_18F_2.54mm_RA (Socket Header, Pitch 2.54 mm, THT, Angled, single row, 18p)
pins: 1, 2, 3, 4, 5, 6, 7, 8, 9, 10, 11, 12, 13, 14, 15, 16, 17, 18

## Con_FPH_18x1_V_THT_2.54
designator J?, comment Inflow: 8101  (hidden comment: 18)
Header, single row, 18 pin; Rating: Rating?; Validation: NT; Value: 18; Package: Package?; Type: Type?
footprint HDR_THT_18F_2.54mm (Socket Header, Pitch 2.54 mm, THT, Vertical, single row, 18p)
pins: 1, 2, 3, 4, 5, 6, 7, 8, 9, 10, 11, 12, 13, 14, 15, 16, 17, 18

## Con_FPH_18x2_R_THT_2.54
designator J?, comment Inflow: 7158  (hidden comment: 18x2)
Header, dual row, 36 pin; Rating: Rating?; Validation: NT; Value: 18x2; Package: Package?; Type: Type?
footprint HDR_THT_18x2F_2.54mm_RA (Socket Header, Pitch 2.54 mm, THT, Angled, dual row, 36p)
pins: 1, 2, 3, 4, 5, 6, 7, 8, 9, 10, 11, 12, 13, 14, 15, 16, 17, 18, 19, 20, 21, 22, 23, 24, 25, 26, 27, 28, 29, 30, 31, 32, 33, 34, 35, 36

## Con_FPH_18x2_V_THT_2.54
designator J?, comment Inflow: 8101  (hidden comment: 18x2)
Header, dual row, 36 pin; Rating: Rating?; Validation: NT; Value: 18x2; Package: Package?; Type: Type?
footprint HDR_SMD_18x2F_2.54mm (Socket Header, Pitch 2.54 mm, SMT, Vertical, dual row, 36p)
footprint HDR_THT_18x2F_2.54mm (Socket Header, Pitch 2.54 mm, THT, Vertical, dual row, 36p)
pins: 1, 2, 3, 4, 5, 6, 7, 8, 9, 10, 11, 12, 13, 14, 15, 16, 17, 18, 19, 20, 21, 22, 23, 24, 25, 26, 27, 28, 29, 30, 31, 32, 33, 34, 35, 36

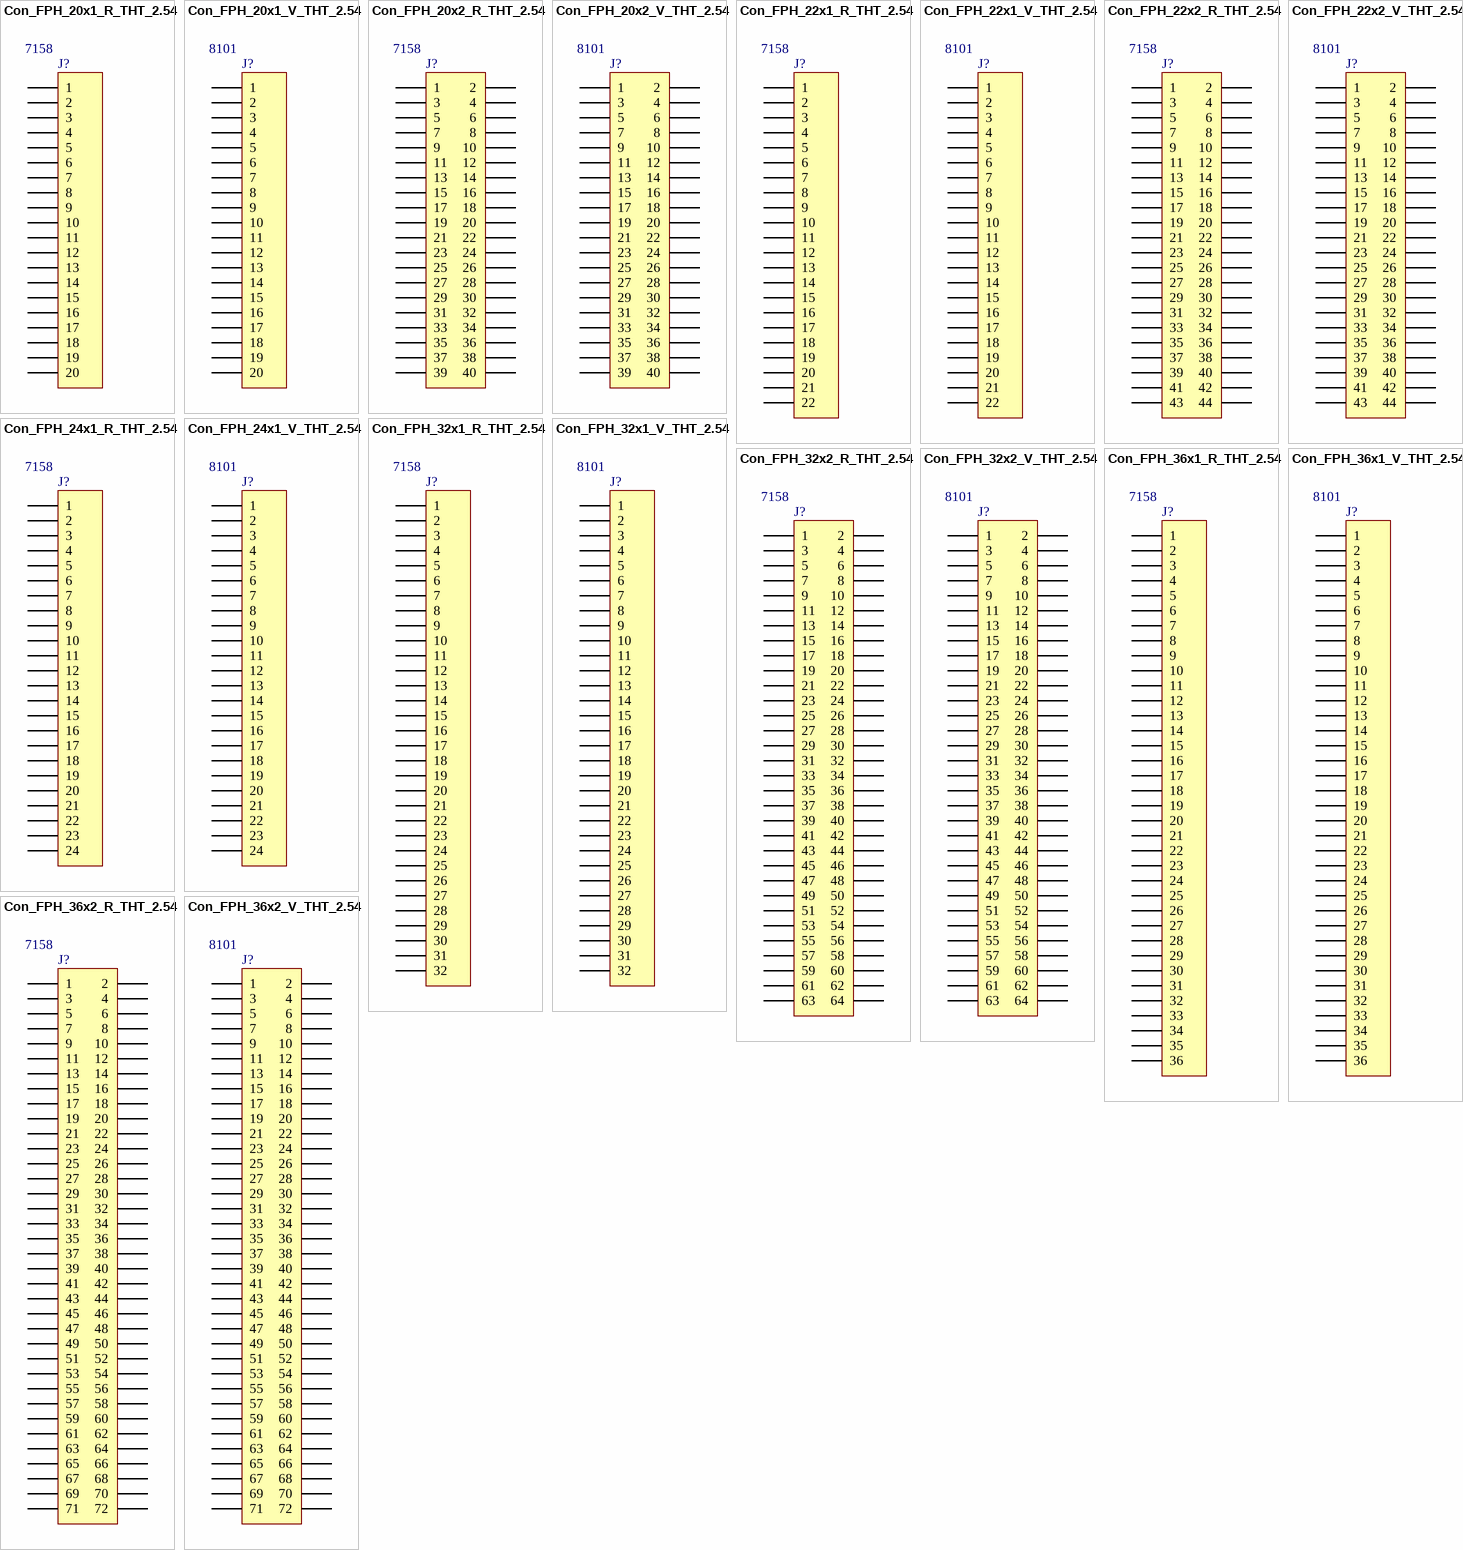
[diagram p2: symbols Con_FPH_20x1_R_THT_2.54 to Con_FPH_36x2_V_THT_2.54]

## Con_FPH_20x1_R_THT_2.54
designator J?, comment Inflow: 7158  (hidden comment: 20)
Header, single row, 20 pin; Rating: Rating?; Validation: NT; Value: 20; Package: Package?; Type: Type?
footprint HDR_THT_20F_2.54mm_RA (Socket Header, Pitch 2.54 mm, THT, Angled, single row, 20p)
pins: 1, 2, 3, 4, 5, 6, 7, 8, 9, 10, 11, 12, 13, 14, 15, 16, 17, 18, 19, 20

## Con_FPH_20x1_V_THT_2.54
designator J?, comment Inflow: 8101  (hidden comment: 20)
Header, single row, 20 pin; Rating: Rating?; Validation: NT; Value: 20; Package: Package?; Type: Type?
footprint HDR_THT_20F_2.54mm (Pin Header, pitch 2.54 mm, THT, Vertical, single row, 20p)
footprint HDR_SMD_20F_2.54mm (Socket Header, Pitch 2.54 mm, SMT, Vertical, single row, 20p)
footprint HDR_SMD_20F_2.54mm_ (Socket Header, Pitch 2.54 mm, SMT, Vertical, single row, 20p)
footprint HDR_THT_20F_2mm (Socket Header, Pitch 2.00 mm, THT, Vertical, single row, 20p)
footprint HDR_THT_20F_2.54mm_military (Pin Header, pitch 2.54 mm, THT, Vertical, single row, 20p)
pins: 1, 2, 3, 4, 5, 6, 7, 8, 9, 10, 11, 12, 13, 14, 15, 16, 17, 18, 19, 20

## Con_FPH_20x2_R_THT_2.54
designator J?, comment Inflow: 7158  (hidden comment: 20x2)
Header, dual row, 40 pin; Rating: Rating?; Validation: NT; Value: 20x2; Package: Package?; Type: Type?
footprint HDR_THT_20x2F_2.54mm_RA (Socket Header, Pitch 2.54 mm, THT, Angled, dual row, 40p)
pins: 1, 2, 3, 4, 5, 6, 7, 8, 9, 10, 11, 12, 13, 14, 15, 16, 17, 18, 19, 20, 21, 22, 23, 24, 25, 26, 27, 28, 29, 30, 31, 32, 33, 34, 35, 36, 37, 38, 39, 40

## Con_FPH_20x2_V_THT_2.54
designator J?, comment Inflow: 8101  (hidden comment: 20x2)
Header, dual row, 40 pin; Rating: Rating?; Validation: NT; Value: 20x2; Package: Package?; Type: Type?
footprint HDR_THT_20x2F_2.54mm (Pin Header, pitch 2.54 mm, THT, Vertical, dual row, 20p)
footprint HDR_SMD_20x2F_2.54mm (Socket Header, Pitch 2.54 mm, SMT, Vertical, dual row, 40p)
footprint HDR_THT_20x2F_2mm (Socket Header, Pitch 2.00 mm, THT, Vertical, dual row, 40p)
pins: 1, 2, 3, 4, 5, 6, 7, 8, 9, 10, 11, 12, 13, 14, 15, 16, 17, 18, 19, 20, 21, 22, 23, 24, 25, 26, 27, 28, 29, 30, 31, 32, 33, 34, 35, 36, 37, 38, 39, 40

## Con_FPH_22x1_R_THT_2.54
designator J?, comment Inflow: 7158  (hidden comment: 22)
Header, single row, 22 pin; Rating: Rating?; Validation: NT; Value: 22; Package: Package?; Type: Type?
footprint HDR_THT_22F_2.54mm_RA (Socket Header, Pitch 2.54 mm, THT, Angled, single row, 22p)
pins: 1, 2, 3, 4, 5, 6, 7, 8, 9, 10, 11, 12, 13, 14, 15, 16, 17, 18, 19, 20, 21, 22

## Con_FPH_22x1_V_THT_2.54
designator J?, comment Inflow: 8101  (hidden comment: 22)
Header, single row, 22 pin; Rating: Rating?; Validation: NT; Value: 22; Package: Package?; Type: Type?
footprint HDR_THT_22F_2.54mm (Socket Header, Pitch 2.54 mm, THT, Vertical, single row, 22p)
pins: 1, 2, 3, 4, 5, 6, 7, 8, 9, 10, 11, 12, 13, 14, 15, 16, 17, 18, 19, 20, 21, 22

## Con_FPH_22x2_R_THT_2.54
designator J?, comment Inflow: 7158  (hidden comment: 22x2)
Header, dual row, 44 pin; Rating: Rating?; Validation: NT; Value: 22x2; Package: Package?; Type: Type?
footprint HDR_THT_22x2F_2.54mm_RA (Socket Header, Pitch 2.54 mm, THT, Angled, dual row, 44p)
pins: 1, 2, 3, 4, 5, 6, 7, 8, 9, 10, 11, 12, 13, 14, 15, 16, 17, 18, 19, 20, 21, 22, 23, 24, 25, 26, 27, 28, 29, 30, 31, 32, 33, 34, 35, 36, 37, 38, 39, 40, 41, 42, 43, 44

## Con_FPH_22x2_V_THT_2.54
designator J?, comment Inflow: 8101  (hidden comment: 22x2)
Header, dual row, 44 pin; Rating: Rating?; Validation: NT; Value: 22x2; Package: Package?; Type: Type?
footprint HDR_SMD_22x2F_2mm (Socket Header, Pitch 2.00 mm, SMT, Vertical, dual row, 44p)
footprint HDR_THT_22x2F_2mm (Socket Header, Pitch 2.00 mm, THT, Vertical, dual row, 44p)
footprint HDR_THT_22x2F_2.54mm (Socket Header, Pitch 2.54 mm, THT, Vertical, dual row, 44p)
pins: 1, 2, 3, 4, 5, 6, 7, 8, 9, 10, 11, 12, 13, 14, 15, 16, 17, 18, 19, 20, 21, 22, 23, 24, 25, 26, 27, 28, 29, 30, 31, 32, 33, 34, 35, 36, 37, 38, 39, 40, 41, 42, 43, 44

## Con_FPH_24x1_R_THT_2.54
designator J?, comment Inflow: 7158  (hidden comment: 24)
Header, single row, 24 pin; Rating: Rating?; Validation: NT; Value: 24; Package: Package?; Type: Type?
footprint HDR_THT_24F_2.54mm_RA (Socket Header, Pitch 2.54 mm, THT, Angled, single row, 24p)
pins: 1, 2, 3, 4, 5, 6, 7, 8, 9, 10, 11, 12, 13, 14, 15, 16, 17, 18, 19, 20, 21, 22, 23, 24

## Con_FPH_24x1_V_THT_2.54
designator J?, comment Inflow: 8101  (hidden comment: 24)
Header, single row, 24 pin; Rating: Rating?; Validation: NT; Value: 24; Package: Package?; Type: Type?
footprint HDR_SMD_24F_2.54mm (Socket Header, Pitch 2.54 mm, SMT, Vertical, single row, 24p)
footprint HDR_SMD_24F_2.54mm_ (Socket Header, Pitch 2.54 mm, SMT, Vertical, single row, 24p)
footprint HDR_THT_24F_2.54mm (Socket Header, Pitch 2.54 mm, THT, Vertical, single row, 24p)
pins: 1, 2, 3, 4, 5, 6, 7, 8, 9, 10, 11, 12, 13, 14, 15, 16, 17, 18, 19, 20, 21, 22, 23, 24

## Con_FPH_32x1_R_THT_2.54
designator J?, comment Inflow: 7158  (hidden comment: 32)
Header, single row, 32 pin; Rating: Rating?; Validation: NT; Value: 32; Package: Package?; Type: Type?
footprint HDR_THT_32F_2.54mm_RA (Socket Header, Pitch 2.54 mm, THT, Angled, single row, 32p)
pins: 1, 2, 3, 4, 5, 6, 7, 8, 9, 10, 11, 12, 13, 14, 15, 16, 17, 18, 19, 20, 21, 22, 23, 24, 25, 26, 27, 28, 29, 30, 31, 32

## Con_FPH_32x1_V_THT_2.54
designator J?, comment Inflow: 8101  (hidden comment: 32)
Header, single row, 32 pin; Rating: Rating?; Validation: NT; Value: 32; Package: Package?; Type: Type?
footprint HDR_THT_32F_2mm (Socket Header, Pitch 2.00 mm, THT, Vertical, single row, 32p)
footprint HDR_THT_32F_2.54mm (Socket Header, Pitch 2.54 mm, THT, Vertical, single row, 32p)
pins: 1, 2, 3, 4, 5, 6, 7, 8, 9, 10, 11, 12, 13, 14, 15, 16, 17, 18, 19, 20, 21, 22, 23, 24, 25, 26, 27, 28, 29, 30, 31, 32

## Con_FPH_32x2_R_THT_2.54
designator J?, comment Inflow: 7158  (hidden comment: 32x2)
Header, dual row, 64 pin; Rating: Rating?; Validation: NT; Value: 32x2; Package: Package?; Type: Type?
footprint HDR_THT_32x2F_2.54mm_RA (Socket Header, Pitch 2.54 mm, THT, Angled, dual row, 64p)
pins: 1, 2, 3, 4, 5, 6, 7, 8, 9, 10, 11, 12, 13, 14, 15, 16, 17, 18, 19, 20, 21, 22, 23, 24, 25, 26, 27, 28, 29, 30, 31, 32, 33, 34, 35, 36, 37, 38, 39, 40, 41, 42, 43, 44, 45, 46, 47, 48, 49, 50, 51, 52, 53, 54, 55, 56, 57, 58, 59, 60, 61, 62, 63, 64

## Con_FPH_32x2_V_THT_2.54
designator J?, comment Inflow: 8101  (hidden comment: 32x2)
Header, dual row, 64 pin; Rating: Rating?; Validation: NT; Value: 32x2; Package: Package?; Type: Type?
footprint HDR_THT_32x2F_2.54mm (Socket Header, Pitch 2.54 mm, THT, Vertical, dual row, 64p)
pins: 1, 2, 3, 4, 5, 6, 7, 8, 9, 10, 11, 12, 13, 14, 15, 16, 17, 18, 19, 20, 21, 22, 23, 24, 25, 26, 27, 28, 29, 30, 31, 32, 33, 34, 35, 36, 37, 38, 39, 40, 41, 42, 43, 44, 45, 46, 47, 48, 49, 50, 51, 52, 53, 54, 55, 56, 57, 58, 59, 60, 61, 62, 63, 64

## Con_FPH_36x1_R_THT_2.54
designator J?, comment Inflow: 7158  (hidden comment: 36)
Header, single row, 36 pin; Rating: Rating?; Validation: NT; Value: 36; Package: Package?; Type: Type?
footprint HDR_THT_36F_2.54mm_RA (Socket Header, Pitch 2.54 mm, THT, Angled, single row, 36p)
pins: 1, 2, 3, 4, 5, 6, 7, 8, 9, 10, 11, 12, 13, 14, 15, 16, 17, 18, 19, 20, 21, 22, 23, 24, 25, 26, 27, 28, 29, 30, 31, 32, 33, 34, 35, 36

## Con_FPH_36x1_V_THT_2.54
designator J?, comment Inflow: 8101  (hidden comment: 36)
Header, single row, 36 pin; Rating: Rating?; Validation: NT; Value: 36; Package: Package?; Type: Type?
footprint HDR_THT_36F_2.54mm (Socket Header, Pitch 2.54 mm, THT, Vertical, single row, 36p)
pins: 1, 2, 3, 4, 5, 6, 7, 8, 9, 10, 11, 12, 13, 14, 15, 16, 17, 18, 19, 20, 21, 22, 23, 24, 25, 26, 27, 28, 29, 30, 31, 32, 33, 34, 35, 36

## Con_FPH_36x2_R_THT_2.54
designator J?, comment Inflow: 7158  (hidden comment: 36x2)
Header, dual row, 72 pin; Rating: Rating?; Validation: NT; Value: 36x2; Package: Package?; Type: Type?
footprint HDR_THT_36x2F_2.54mm_RA (Socket Header, Pitch 2.54 mm, THT, Angled, dual row, 72p)
pins: 1, 2, 3, 4, 5, 6, 7, 8, 9, 10, 11, 12, 13, 14, 15, 16, 17, 18, 19, 20, 21, 22, 23, 24, 25, 26, 27, 28, 29, 30, 31, 32, 33, 34, 35, 36, 37, 38, 39, 40, 41, 42, 43, 44, 45, 46, 47, 48, 49, 50, 51, 52, 53, 54, 55, 56, 57, 58, 59, 60, 61, 62, 63, 64, 65, 66, 67, 68, 69, 70, 71, 72

## Con_FPH_36x2_V_THT_2.54
designator J?, comment Inflow: 8101  (hidden comment: 36x2)
Header, dual row, 72 pin; Rating: Rating?; Validation: NT; Value: 36x2; Package: Package?; Type: Type?
footprint HDR_THT_36x2F_2.54mm (Socket Header, Pitch 2.54 mm, THT, Vertical, dual row, 72p)
pins: 1, 2, 3, 4, 5, 6, 7, 8, 9, 10, 11, 12, 13, 14, 15, 16, 17, 18, 19, 20, 21, 22, 23, 24, 25, 26, 27, 28, 29, 30, 31, 32, 33, 34, 35, 36, 37, 38, 39, 40, 41, 42, 43, 44, 45, 46, 47, 48, 49, 50, 51, 52, 53, 54, 55, 56, 57, 58, 59, 60, 61, 62, 63, 64, 65, 66, 67, 68, 69, 70, 71, 72

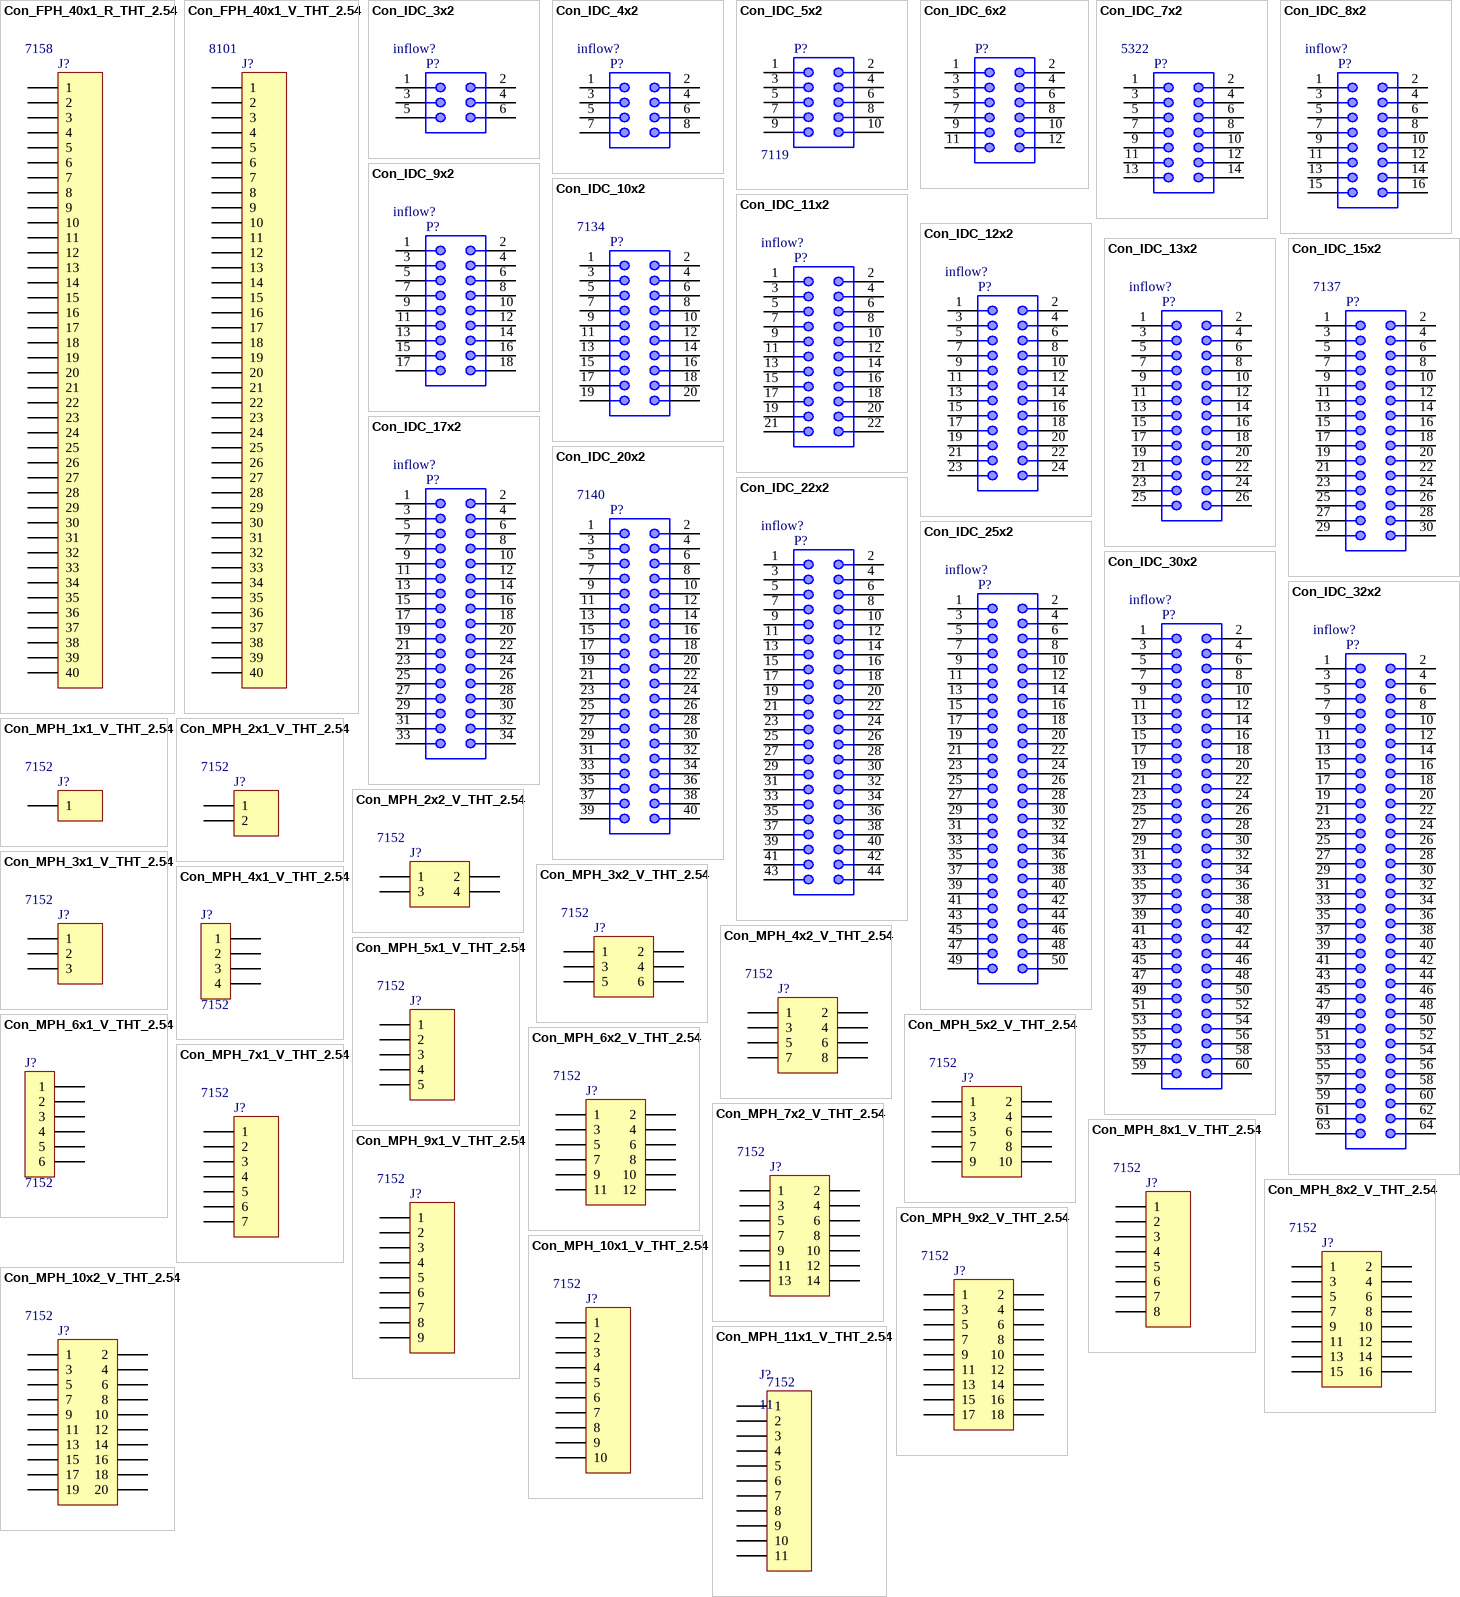
[diagram p3: symbols Con_FPH_40x1_R_THT_2.54 to Con_MPH_11x1_V_THT_2.54]

## Con_FPH_40x1_R_THT_2.54
designator J?, comment Inflow: 7158  (hidden comment: 40)
Header, single row, 40 pin; Rating: Rating?; Validation: NT; Value: 40; Package: Package?; Type: Type?
footprint HDR_THT_40F_2.54mm_RA (Socket Header, Pitch 2.54 mm, THT, Angled, single row, 40p)
pins: 1, 2, 3, 4, 5, 6, 7, 8, 9, 10, 11, 12, 13, 14, 15, 16, 17, 18, 19, 20, 21, 22, 23, 24, 25, 26, 27, 28, 29, 30, 31, 32, 33, 34, 35, 36, 37, 38, 39, 40

## Con_FPH_40x1_V_THT_2.54
designator J?, comment Inflow: 8101  (hidden comment: 40)
Header, single row, 40 pin; Rating: Rating?; Validation: NT; Value: 40; Package: Package?; Type: Type?
footprint HDR_THT_40F_2.54mm (Socket Header, Pitch 2.54 mm, THT, Vertical, single row, 40p)
pins: 1, 2, 3, 4, 5, 6, 7, 8, 9, 10, 11, 12, 13, 14, 15, 16, 17, 18, 19, 20, 21, 22, 23, 24, 25, 26, 27, 28, 29, 30, 31, 32, 33, 34, 35, 36, 37, 38, 39, 40

## Con_IDC_3x2
designator P?, comment Inflow: inflow?  (hidden comment: 3x2)
Male Box Header, 6 pins; Rating: Rating?; Validation: NT; Value: 3x2; Package: Package?; Type: Type?
footprint BOX-HDR-3X2-2.54MM-S (6 pins, straight, gold plating)
footprint BOX-HDR-3X2-2.54MM-RA (6 pins, right angled, gold plating)
pins: 1, 2, 3, 4, 5, 6